# Altium schematic symbol library AltiumLibraries.SchLib: 572 symbols (part 2 of 5)
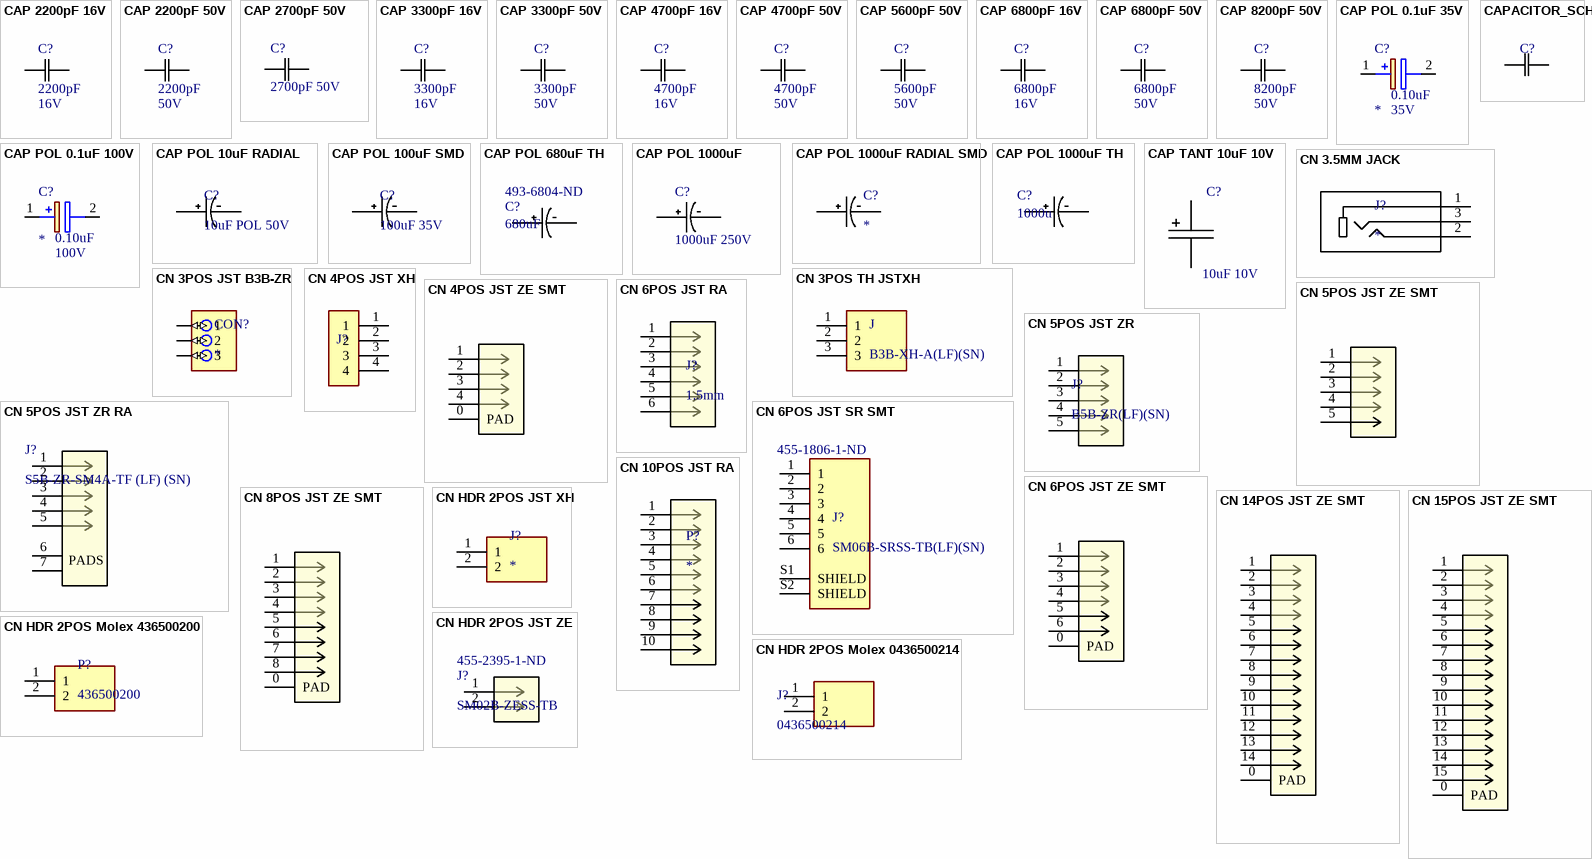
[diagram p16: symbols CAP 2200pF 16V to CN HDR 2POS Molex 0436500214]

## CN 4POS JST XH
designator J?
Connector Header Through Hole 4 position 0.098 _2.50mm_ / B4B-XH-A(LF)(SN); MP: B4B-XH-A_LF__SN_; MF: JST Sales; Price: None; Package: None; Value: *; Availability: Unavailable; SnapEDA_Link: https://www.snapeda.com/parts/B4B-XH-A%28LF%29%28SN%29/JST%20Sales%20America%20Inc./view-part/447494/?ref=snap
footprint JST_B4B-XH-A(LF)(SN)
pins: 1, 2, 3, 4

## CN 4POS JST ZE SMT
designator J?, comment BM04B-ZESS-TBT(LF)(SN)
Connector Header, ZE Series, 4 Positon, 1.5mm, Shrouded - 4 Wall, Solder, Locking Ramp, Natural; Manufacturer: JST; Number of Positions: 4; Current Rating: 2A; Voltage Rating: 100V; Connector Type: Outer Shroud Contact; Pitch: 0.059inch; Supplier 1: Digi-Key; Manufacturer Part Number: BM04B-ZESS-TBT(LF)(SN); RoHS: Yes; Category: Connectors; Stock 1: 2574; Pricing 1: 1=0.74000, 10=0.64700, 100=0.53360 (USD); Mount: Surface Mount; Color: Natural; Contact Material: Copper Alloy; Contact Plating: Tin; Package Quantity: 800; Number of Rows: 1; Packaging: Tape and Reel; Termination: Solder; Fastening Type: Ramp; Number of Contacts: 4; Orientation: Straight; Series: ZE; Contact Type: Outer Shroud Contact; Lead Free: Lead Free; ComponentLink1URL: https://datasheet.ciiva.com/729/bm2-6b-zexxs-tbtlfsn-729254.pdf?src-supplier=Digi-Key; ComponentLink1Description: https://datasheet.ciiva.com/729/bm2-6b-zexxs-tbtlfsn-729254.pdf?src-supplier=Digi-Key; ComponentLink2URL: https://datasheet.ciiva.com/729/bm2-6b-zexxs-tbtlfsn-729284.pdf?src-supplier=Digi-Key; ComponentLink2Description: https://datasheet.ciiva.com/729/bm2-6b-zexxs-tbtlfsn-729284.pdf?src-supplier=Digi-Key; Supplier Part Number 1: 455-2382-1-ND
footprint JST ZE SMT 4POS (4 POS HDR JST ZE)
pins: 0 PAD, 1, 2, 3, 4

## CN 5POS JST ZE SMT
designator J?, comment BM05B-ZESS-TBT(LF)(SN)
CONN HEADER VERT SMD 5POS ZE; Supplier 1: Digi-Key; Supplier Part Number 1: 455-2383-1-ND
footprint JST ZE SMT 5POS (5 POS HDR JST ZE)
pins: 1, 2, 3, 4, 5

## CN 5POS JST ZR
designator J?, comment B5B-ZR(LF)(SN)
Connector Header Through Hole 5 position 0.059 (1.50mm); MF: JST Sales; Package: None; Check_prices: https://www.snapeda.com/parts/B5B-ZR(LF)(SN)/JST%20Sales%20America%20Inc./view-part/214617/?ref=eda; Purchase-URL: https://pricing.snapeda.com/search/part/B5B-ZR(LF)(SN)/?ref=eda; Price: None; MP: B5B-ZR(LF)(SN); Value: *; Availability: Warning; SnapEDA_Link: https://www.snapeda.com/parts/B5B-ZR(LF)(SN)/JST%20Sales%20America%20Inc./view-part/214617/?ref=snap; Supplier 1: Digi-Key; Supplier 2: Future Electronics; Supplier Part Number 1: 455-1660-ND; Supplier Part Number 2: 5800651
footprint JST_B5B-ZR(LF)(SN)
pins: 1, 2, 3, 4, 5

## CN 5POS JST ZR RA
designator J?, comment S5B-ZR-SM4A-TF (LF) (SN)
Connector Header Surface Mount, Right Angle 5 position 0.059" (1.50mm); Mfr_Name: JST; Copyright: Copyright (C) 2021 Ultra Librarian. All rights reserved.; Manufacturer_Part_Number: S5B-ZR-SM4A-TF (LF) (SN); Digi-Key_Part_Number_1: 455-1696-2-ND; Digi-Key_Part_Number_2: 455-1696-1-ND; Digi-Key_Part_Number_3: 455-1696-6-ND; RefDes: RefDes; Type: DEV; Supplier 1: Digi-Key; Supplier Part Number 1: 455-1696-1-ND
footprint JST_S5B-ZR-SM4A-TF
pins: 1, 2, 3, 4, 5, 6, 7
text: PADS

## CN 6POS JST RA
designator J?, comment 1.5mm
Conn Shrouded Header HDR 6 POS 1.5mm Solder RA Thru-Hole Box; Manufacturer: JST; Manufacturer Part Number: S6B-ZR(LF)(SN); Body Plating: Tin; Number of Positions: 6; Current Rating: 1A; Connector Type: Header,Male Pin; Contact Resistance: 30mR; Voltage Rating: 50V; Gender: Male; Insulation Resistance: 500MR; Panel Thickness: 3.5mm; Supplier 1: Digi-Key; RoHS: Yes; Category: Headers and Wire Housings; Stock 1: 14808; Mount: Through Hole; Number of Pins: 6; Color: White; Contact Plating: Tin,Copper; Contact Material: Brass,Tin,Copper; Housing Color: Beige; Housing Material: Polyamide; Material: Nylon; Contact Shape: Circular; Insulation Material: Nylon; Insulation Color: Natural; Min Operating Temperature: -25°C; Max Operating Temperature: 85°C; Number of Rows: 1; Packaging: Bulk; Termination: Solder; Fastening Type: Detent; Number of Contacts: 6; Max Voltage Rating (AC): 50V; Max Current Rating: 1A; Orientation: Right Angle; Voltage Rating (AC): 50V; Voltage Rating (DC): 50V; Length: 10.5mm; Width: 3.5mm; Height: 7.2mm; Pitch: 1.5mm; Depth: 6mm; Lead Pitch: 1.5mm; Contact Mating Length: 0.094inch; Lead Free: Lead Free; Flammability Rating: UL94 V-0; REACH SVHC: No SVHC; ComponentLink1URL: https://datasheet.ciiva.com/8052/80556-8052225.pdf?src-supplier=Element14; ComponentLink1Description: https://datasheet.ciiva.com/8052/80556-8052225.pdf?src-supplier=Element14; ComponentLink2URL: https://datasheet.ciiva.com/25617/0900766b81147f94-25617345.pdf?src-supplier=RSComponents; ComponentLink2Description: https://datasheet.ciiva.com/25617/0900766b81147f94-25617345.pdf?src-supplier=RSComponents; ComponentLink3URL: https://datasheet.ciiva.com/11752/0900766b8082f593-11752194.pdf?src-supplier=RSComponents; ComponentLink3Description: https://datasheet.ciiva.com/11752/0900766b8082f593-11752194.pdf?src-supplier=RSComponents; ComponentLink4URL: https://datasheet.ciiva.com/26894/getdatasheetpartid-642095-26894637.pdf?src-supplier=Verical; ComponentLink4Description: https://datasheet.ciiva.com/26894/getdatasheetpartid-642095-26894637.pdf?src-supplier=Verical; ComponentLink5URL: https://datasheet.ciiva.com/712/ezh-712560.pdf?src-supplier=Digi-Key; ComponentLink5Description: https://datasheet.ciiva.com/712/ezh-712560.pdf?src-supplier=Digi-Key; ComponentLink6URL: https://datasheet.ciiva.com/16484/s6b-zrlfsn-16484554.pdf?src-supplier=Future+Electronics; ComponentLink6Description: https://datasheet.ciiva.com/16484/s6b-zrlfsn-16484554.pdf?src-supplier=Future+Electronics; Supplier Part Number 1: 455-1673-ND
footprint 6POS JST
footprint 6POS JST Vertical
pins: 1, 2, 3, 4, 5, 6

## CN 6POS JST SR SMT
designator J?, comment SM06B-SRSS-TB(LF)(SN)  Supplier Part Number 1: 455-1806-1-ND
Connector Header Surface Mount, Right Angle 6 position 0.039 _1.00mm_; MP: SM06B-SRSS-TB_LF__SN_; MF: JST Sales; Package: None; Value: *; SnapEDA_Link: https://www.snapeda.com/parts/SM06B-SRSS-TB%28LF%29%28SN%29/JST%20Sales%20America%20Inc./view-part/554386/?ref=snap; Digi-Key_Purchase_URL: https://www.digikey.com/product-detail/en/jst-sales-america-inc/SM06B-SRSS-TB_LF__SN_/455-1806-1-ND/926877?utm_source=snapeda&utm_medium=aggregator&utm_campaign=symbol; Digi-Key_Part_Number: 455-1806-1-ND; Supplier 1: Digi-Key
footprint JST_SM06B-SRSS-TB(LF)(SN)
pins: 1, 2, 3, 4, 5, 6, S1 SHIELD, S2 SHIELD

## CN 6POS JST ZE SMT
designator J?, comment BM06B-ZESS-TBT(LF)(SN)
CONN HEADER VERT SMD 6POS ZE; Supplier 1: Digi-Key; Supplier Part Number 1: 455-2384-1-ND
footprint JST ZE SMT 6POS (6 POS HDR JST ZE)
pins: 0 PAD, 1, 2, 3, 4, 5, 6

## CN 8POS JST ZE SMT
designator J?, comment BM08B-ZESS-TBT(LF)(SN)
CONN HEADER VERT SMD 8POS ZE; Supplier 1: Digi-Key; Supplier Part Number 1: 455-2386-1-ND
footprint JST ZE SMT 8POS (8 POS HDR JST ZE)
pins: 0 PAD, 1, 2, 3, 4, 5, 6, 7, 8

## CN 10POS JST RA
designator P?
Connector Header Through Hole, Right Angle 10 position 0.059" (1.50mm) ZH Series
footprint 10POS JST
pins: 1, 2, 3, 4, 5, 6, 7, 8, 9, 10

## CN 14POS JST ZE SMT
designator J?, comment BM14B-ZESS-TBT(LF)(SN)
CONN HEADER VERT SMD 14POS ZE; Supplier 1: Digi-Key; Supplier Part Number 1: 455-4210-1-ND
footprint JST ZE SMT 14POS (14 POS HDR JST ZE)
pins: 0 PAD, 1, 2, 3, 4, 5, 6, 7, 8, 9, 10, 11, 12, 13, 14

## CN 15POS JST ZE SMT
designator J?, comment BM15B-ZESS-TBT(LF)(SN)
CONN HEADER VERT SMD 15POS ZE; Supplier 1: Digi-Key; Supplier Part Number 1: 455-4211-1-ND
footprint JST ZE SMT 15POS (15 POS HDR JST ZE)
pins: 0 PAD, 1, 2, 3, 4, 5, 6, 7, 8, 9, 10, 11, 12, 13, 14, 15

## CN HDR 2POS JST XH
designator J?
Connector Header Through Hole 2 position 0.098 _2.50mm_ / JST XH; MP: B2B-XH-A_LF__SN_; MF: JST Sales; Price: None; Package: None; Value: *; Availability: Unavailable; SnapEDA_Link: https://www.snapeda.com/parts/B2B-XH-A%28LF%29%28SN%29/JST%20Sales%20America%20Inc./view-part/492310/?ref=snap
footprint JST_B2B-XH-A(LF)(SN)
footprint JST_S2B-XH-A(LF)(SN)
pins: 1, 2

## CN HDR 2POS JST ZE
designator J?, comment SM02B-ZESS-TB  Supplier Part Number 1: 455-2395-1-ND
Connector Header Surface Mount, Right Angle 2 position 0.059" (1.50mm); Mfr_Name: JST; Copyright: Copyright (C) 2021 Ultra Librarian. All rights reserved.; Manufacturer_Part_Number: SM02B-ZESS-TB; RefDes: RefDes; Type: DEV; Supplier 1: Digi-Key
footprint CN SM02B-ZESS-TB_JST
pins: 1, 2

## CN HDR 2POS Molex 436500200
designator P?, comment 436500200
Connector Header Through Hole, Right Angle 2 position 0.118 (3.00mm); MF: Molex; MP: 436500200; Availability: Warning; SnapEDA_Link: https://www.snapeda.com/parts/436500200/Molex/view-part/4523841/?ref=snap; Package: None; Value: *; Price: None; Supplier 1: Digi-Key; Supplier Part Number 1: WM1860-ND
footprint MOLEX_436500200
pins: 1, 2

## CN HDR 2POS Molex 0436500214
designator J?, comment 0436500214
Connector Header Surface Mount, Right Angle 2 position 0.118" (3.00mm); Manufacturer_Name: Molex; Manufacturer_Part_Number: 43650-0214; Datasheet Link: http://www.molex.com/webdocs/datasheets/pdf/en-us//0436500214_PCB_HEADERS.pdf; Supplier 1: Digi-Key; Supplier 2: Newark; Supplier 3: Arrow Electronics; Supplier 4: Mouser; Supplier Part Number 1: WM14310CT-ND; Supplier Part Number 2: 39AH6218; Supplier Part Number 3: 43650-0214; Supplier Part Number 4: 538-43650-0214
footprint 43650-0214
pins: 1, 2

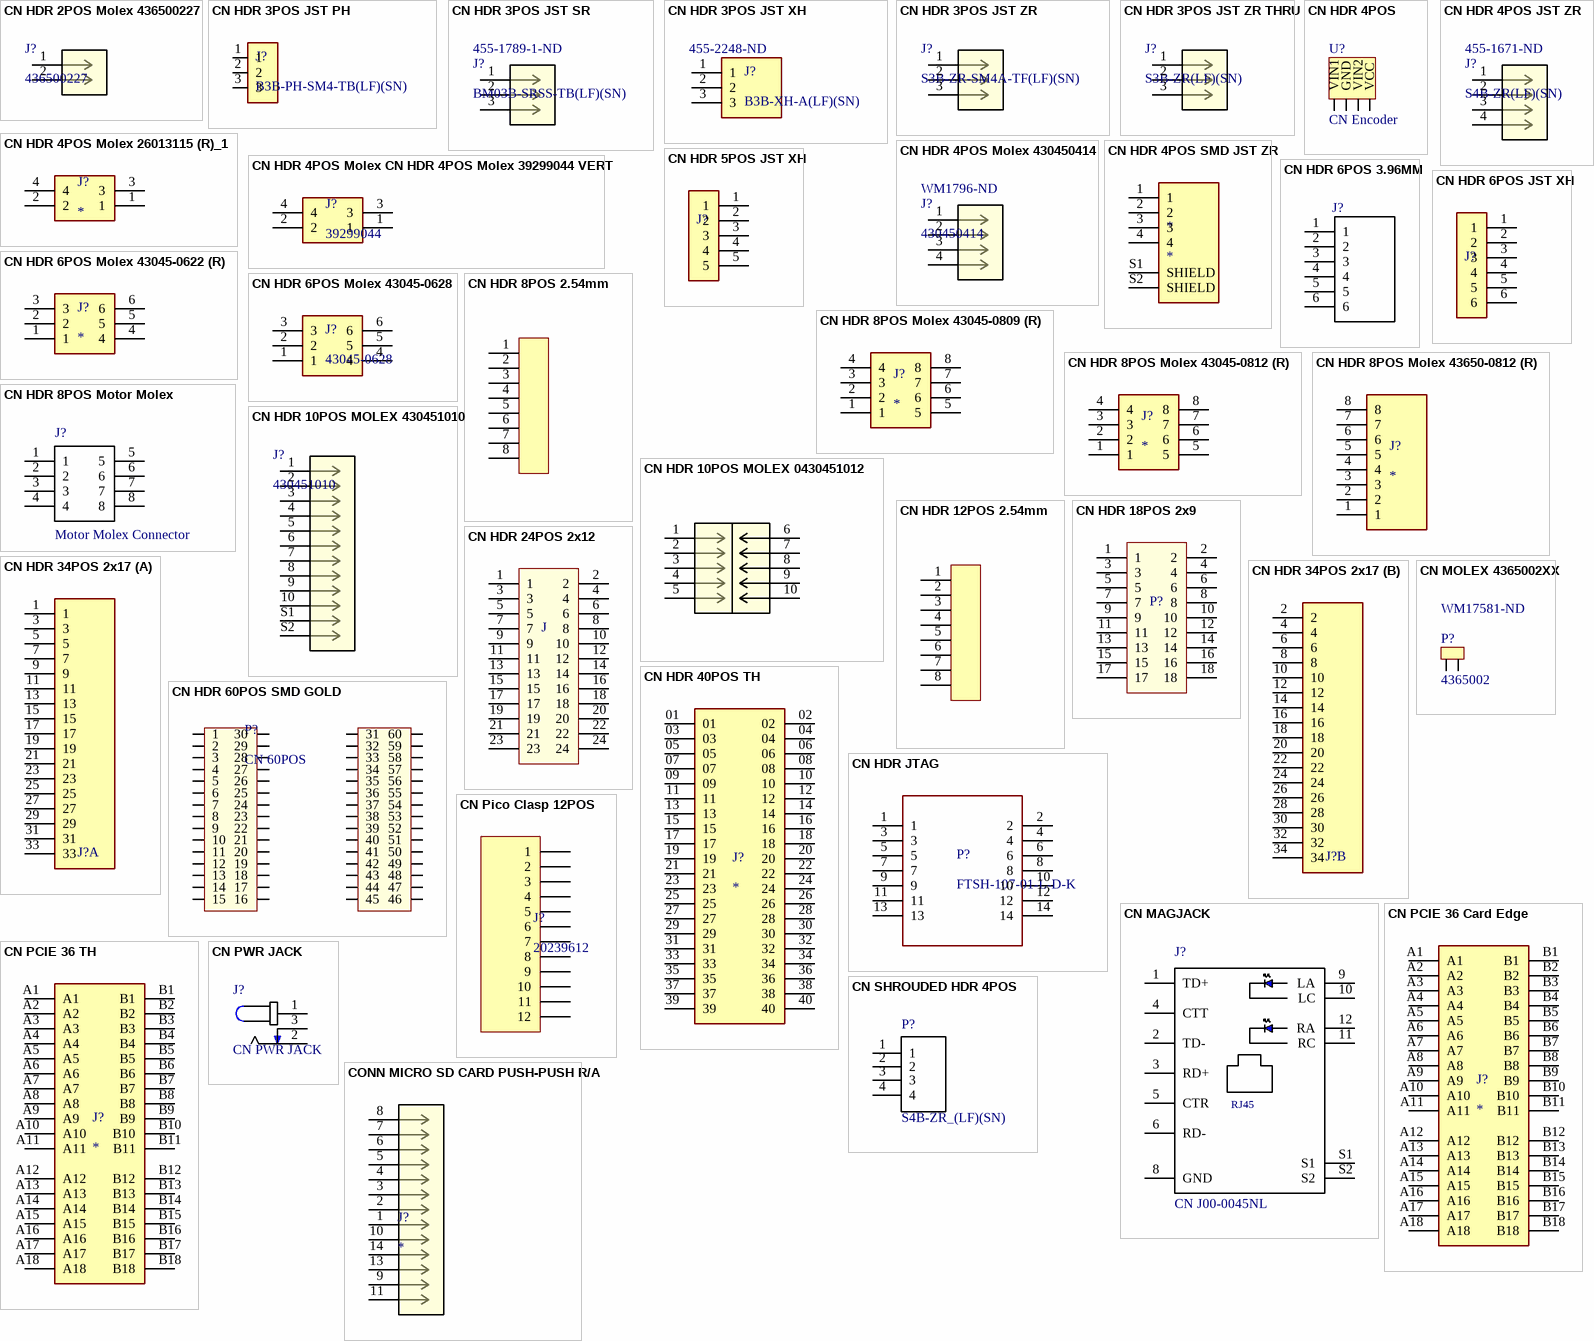
[diagram p4: symbols CN HDR 2POS Molex 436500227 to CONN MICRO SD CARD PUSH-PUSH R/A]

## CN HDR 2POS Molex 436500227
designator J?, comment 436500227
Connector Header Through Hole 2 position 0.118" (3.00mm); Mfr_Name: Molex Connector Corporation; Copyright: Copyright (C) 2021 Ultra Librarian. All rights reserved.; Manufacturer_Part_Number: 436500227; Digi-Key_Part_Number_1: WM10656-ND; RefDes: RefDes; Type: DEV; Supplier 1: Digi-Key; Supplier 2: Newark; Supplier 3: Arrow Electronics; Supplier 4: Mouser; Supplier Part Number 1: WM10656-ND; Supplier Part Number 2: 57H0317; Supplier Part Number 3: 43650-0227; Supplier Part Number 4: 538-43650-0227
footprint CON_436500227_MOL
pins: 1, 2

## CN HDR 3POS JST PH
designator J?, comment B3B-PH-SM4-TB(LF)(SN)
Connector Header Surface Mount 3 position 0.079" (2.00mm); MF: JST Sales; MP: B3B-PH-SM4-TB_LF__SN_; Digi-Key_Part_Number: 455-1735-1-ND; Digi-Key_Purchase_URL: https://www.digikey.com/product-detail/en/jst-sales-america-inc/B3B-PH-SM4-TB_LF__SN_/455-1735-1-ND/926832?utm_source=snapeda&utm_medium=aggregator&utm_campaign=symbol; Value: *; SnapEDA_Link: https://www.snapeda.com/parts/B3B-PH-SM4-TB%28LF%29%28SN%29/JST%20Sales%20America%20Inc./view-part/53135/?ref=snap; Package: 2010 JST; Supplier 1: Digi-Key; Supplier Part Number 1: 455-1735-1-ND
footprint JST_B3B-PH-SM4-TB(LF)(SN)
pins: 1, 2, 3

## CN HDR 3POS JST SR
designator J?, comment BM03B-SRSS-TB(LF)(SN)  Supplier Part Number 1: 455-1789-1-ND
Connector Header Surface Mount 3 position 0.039" (1.00mm); Mfr_Name: JST; Copyright: Copyright (C) 2022 Ultra Librarian. All rights reserved.; Manufacturer_Part_Number: BM03B-SRSS-TB(LF)(SN); Digi-Key_Part_Number_1: 455-1789-2-ND; Digi-Key_Part_Number_2: 455-1789-1-ND; Digi-Key_Part_Number_3: 455-1789-6-ND; RefDes: RefDes; Type: DEV; Supplier 1: Digi-Key
footprint CONN_BM03B-SRSS-TB(LF)(SN)_JST
pins: 1, 2, 3

## CN HDR 3POS JST XH
designator J?, comment B3B-XH-A(LF)(SN)  Supplier Part Number 1: 455-2248-ND
Connector Header Through Hole 3 position 0.098 (2.50mm); MF: JST Sales; Check_prices: https://www.snapeda.com/parts/B3B-XH-A(LF)(SN)/JST%20Sales%20America%20Inc./view-part/231271/?ref=eda; Value: *; Package: None; Price: None; Availability: In Stock; MP: B3B-XH-A(LF)(SN); SnapEDA_Link: https://www.snapeda.com/parts/B3B-XH-A(LF)(SN)/JST%20Sales%20America%20Inc./view-part/231271/?ref=snap; Supplier 1: Digi-Key
footprint JST_B3B-XH-A(LF)(SN)
pins: 1, 2, 3

## CN HDR 3POS JST ZR
designator J?, comment S3B-ZR-SM4A-TF(LF)(SN)
Connector Header Surface Mount, Right Angle 3 position 0.059" (1.50mm); Mfr_Name: JST; Copyright: Copyright (C) 2021 Ultra Librarian. All rights reserved.; Manufacturer_Part_Number: S3B-ZR-SM4A-TF(LF)(SN); RefDes: RefDes; Type: DEV; ComponentLink1Description: Newark Link; ComponentLink1URL: https://canada.newark.com/jst-japan-solderless-terminals/s3b-zr-sm4a-tf/wire-to-board-connector-side-entry/dp/90R9343?CMP=AFC-OP
footprint CN S3B-ZR-SM4A-TF(LF)(SN)_JST
pins: 1, 2, 3

## CN HDR 3POS JST ZR THRU
designator J?, comment S3B-ZR(LF)(SN)
Connector Header Through Hole, Right Angle 3 position 0.059" (1.50mm); Mfr_Name: JST; Copyright: Copyright (C) 2021 Ultra Librarian. All rights reserved.; Manufacturer_Part_Number: S3B-ZR(LF)(SN); Digi-Key_Part_Number_1: 455-1670-ND; RefDes: RefDes; Type: DEV; Supplier 1: Digi-Key; Supplier 2: Newark; Supplier Part Number 1: 455-1670-ND; Supplier Part Number 2: 67Y9690
footprint CONN_S3B-ZR_JST
pins: 1, 2, 3

## CN HDR 4POS
designator U?, comment CN Encoder
CN HDR R/A 4POS 1.5MM; MF: JST Sales America Inc.; MP: S4B-ZR(LF)(SN); Rating: 1A; Digikey: 455-1671-ND; Digikey Link: https://www.digikey.ca/products/en?keywords=455-1671-ND; Price: 0.324 CAD; Package: N/A; Value: N/A; Supplier 1: Digi-Key; Supplier Part Number 1: 455-1671-ND
footprint EncoderConnector (CONN HEADER R/A 4POS 1.5MM)
pins: GND (power), VCC (power), VIN1 (in), VIN2 (in)

## CN HDR 4POS JST ZR
designator J?, comment S4B-ZR(LF)(SN)  Supplier Part Number 1: 455-1671-ND
Connector Header Through Hole, Right Angle 4 position 0.059" (1.50mm); Mfr_Name: JST; Copyright: Copyright (C) 2021 Ultra Librarian. All rights reserved.; Manufacturer_Part_Number: S4B-ZR(LF)(SN); Digi-Key_Part_Number_1: 455-1671-ND; RefDes: RefDes; Type: DEV; Supplier 1: Digi-Key
footprint CN S4B-ZR(LF)(SN)_JST
pins: 1, 2, 3, 4

## CN HDR 4POS Molex 26013115 (R)_1
designator J?
Molex 26013115 4POS Minifit / dual row, right angle
footprint 26013115
pins: 1, 2, 3, 4

## CN HDR 4POS Molex 430450414
designator J?, comment 430450414  Supplier Part Number 1: WM1796-ND
Connector Header Through Hole 4 position 0.118" (3.00mm); Mfr_Name: Molex Connector Corporation; Copyright: Copyright (C) 2021 Ultra Librarian. All rights reserved.; Manufacturer_Part_Number: 430450414; RefDes: RefDes; Type: DEV; Supplier 1: Digi-Key
footprint CN 430450414_MOL
pins: 1, 2, 3, 4

## CN HDR 4POS Molex CN HDR 4POS Molex 39299044 VERT
designator J?, comment 39299044
Molex 39299044 4POS Minifit / dual row, vertical; Supplier 1: Digi-Key; Supplier Part Number 1: WM7336-ND
footprint 39299044 (4 POS MOLEX VERT)
pins: 1, 2, 3, 4

## CN HDR 4POS SMD JST ZR
designator *
footprint CN HDR 4POS SMD JST ZR
pins: 1, 2, 3, 4, S1 SHIELD, S2 SHIELD

## CN HDR 5POS JST XH
designator J?
Connector Header Through Hole 5 position 0.098" (2.50mm); MP: B5B-XH-A(LF)(SN); MF: JST Sales; Price: None; Package: None; Value: *; Availability: Unavailable; Digikey: 455-2270-ND; ComponentLink1Description: Digikey; ComponentLink1URL: https://www.digikey.ca/en/products/detail/jst-sales-america-inc/B5B-XH-A-LF-SN/1530483
footprint JST_B5B-XH-A(LF)(SN)
pins: 1, 2, 3, 4, 5

## CN HDR 6POS 3.96MM
designator J?, comment CONN HEADER VERT 6POS 3.96MM  (value not drawn)
MF: TE Connectivity; MP: 1877285-6; Current Rating: 7.5A; Voltage Rating: 250VAC; SnapEDA_Link: https://www.snapeda.com/parts/1877285-6/TE%20Connectivity/view-part/2371244/?ref=snap; Digikey: A99849-ND; Digikey Link: https://www.digikey.ca/product-detail/en/te-connectivity-amp-connectors/1877285-6/A99849-ND/2000097; Supplier 1: Digi-Key; Supplier Part Number 1: A99849-ND
footprint CN HDR 6POS 3.96MM
pins: 1, 2, 3, 4, 5, 6

## CN HDR 6POS JST XH
designator J?
Connector Header Through Hole 6 position 0.098" (2.50mm); MP: B6B-XH-A(LF)(SN); MF: JST Sales; Price: None; Package: None; Value: *; Availability: Available; Digikey: 455-2271-ND; ComponentLink1Description: Digikey; ComponentLink1URL: https://www.digikey.ca/en/products/detail/jst-sales-america-inc/B5B-XH-A-LF-SN/1530483
footprint JST_B6B-XH-A(LF)(SN)
pins: 1, 2, 3, 4, 5, 6

## CN HDR 6POS Molex 43045-0622 (R)
designator J?
Molex 43045-0622 6POS Microfit / dual row, right angle
footprint 430450622
pins: 1, 2, 3, 4, 5, 6

## CN HDR 6POS Molex 43045-0628
designator J?, comment 43045-0628
Molex 43045-0628 6POS Microfit / dual row, Vertical; Supplier 1: Digi-Key; Supplier Part Number 1: WM10679-ND
footprint 430450628 (6 POS VERT MOLEX)
pins: 1, 2, 3, 4, 5, 6

## CN HDR 8POS 2.54mm
designator P?, comment HDR 1x8
footprint HDR1x8
pins: 1, 2, 3, 4, 5, 6, 7, 8

## CN HDR 8POS Molex 43045-0809 (R)
designator J?
Molex 43045-0809 8POS Microfit / dual row, right angle, surface mount
footprint CN 043045-0809 (Molex Micro-Fit 0430450 SMD 8CKT)
pins: 1, 2, 3, 4, 5, 6, 7, 8

## CN HDR 8POS Molex 43045-0812 (R)
designator J?
Molex 43045-0812 8POS Microfit / DR TH Vertical
footprint 4304508 (CN Vertical 8 Pin TH)
pins: 1, 2, 3, 4, 5, 6, 7, 8

## CN HDR 8POS Molex 43650-0812 (R)
designator J?
Molex 43650-0812 8POS Microfit / single row, right angle, surface mount
footprint CN 43650-0812 (Molex Micro-Fit 043650 SMD 8CKT)
pins: 1, 2, 3, 4, 5, 6, 7, 8

## CN HDR 8POS Motor Molex
designator J?, comment Motor Molex Connector
Connector Header Through Hole 8 position 0.165" (4.20mm); MP: 0039281083; MF: Molex; Digikey: WM3803-ND; Price: 1.624 CAD; Value: N/A; Digikey Link: https://www.digikey.ca/products/en?keywords=WM3803-ND; Supplier 1: Digi-Key; Supplier Part Number 1: WM3803-ND
footprint MOLEX_0039281083
pins: 1, 2, 3, 4, 5, 6, 7, 8

## CN HDR 10POS MOLEX 430451010
designator J?, comment 430451010
Connector Header Surface Mount, Right Angle 10 position 0.118" (3.00mm); Mfr_Name: Molex Connector Corporation; Copyright: Copyright (C) 2021 Ultra Librarian. All rights reserved.; Manufacturer_Part_Number: 430451010; Digi-Key_Part_Number_1: WM3819TR-ND; Digi-Key_Part_Number_2: WM3819CT-ND; Digi-Key_Part_Number_3: WM3819DKR-ND; RefDes: RefDes; Type: DEV; Supplier 1: Digi-Key; Supplier 2: Newark; Supplier 3: Mouser; Supplier Part Number 1: WM3819CT-ND; Supplier Part Number 2: 03AH4054; Supplier Part Number 3: 538-43045-1010
footprint CON_430451010_MOL
pins: 1, 2, 3, 4, 5, 6, 7, 8, 9, 10, S1, S2

## CN HDR 10POS MOLEX 0430451012
designator J?, comment 8A Molex
CONN HEADER VERT 10POS 3MM; Manufacturer Part Number: 0430451012; Number of Terminals/Pins: 10; Contact Resistance: 10mR; Connector Type: Male Pin; Number of Ports: 1; Max Voltage Rating (AC): 250V; Pitch: 0.118inch; Supplier 1: Digi-Key; Manufacturer: Molex; RoHS: Yes; Category: Headers and Wire Housings; Stock 1: 22123; Pricing 1: 1=2.46000, 10=2.09300, 80=1.72925, 1224=1.36521, 6120=1.21049 (USD); Mount: Through Hole; Color: Black; Contact Material: Brass; Contact Plating: Tin; Housing Color: Black; Housing Material: Polymer; Min Operating Temperature: -40°C; Max Operating Temperature: 105°C; Packaging: Tray; Number of Rows: 2; Number of Positions: 10; Termination: Solder; Number of Contacts: 10; Orientation: Straight; Series: Micro-Fit 3.0™ 43045; Fastening Type: Ramp; Contact Type: Male Pin; Length: 19.15mm; Row Spacing: 0.118inch; Depth: 8.77mm; Flammability Rating: UL94 V-0; RoHS Compliant: Yes; ComponentLink1URL: http://components.arrow.com/part/dataview/0323_01052363?src-supplier=Arrow+Europe; ComponentLink1Description: http://components.arrow.com/part/dataview/0323_01052363?src-supplier=Arrow+Europe; ComponentLink2URL: http://components.arrow.com/part/dataview/2943140S3689940N3303?src-supplier=Arrow+Electronics; ComponentLink2Description: http://components.arrow.com/part/dataview/2943140S3689940N3303?src-supplier=Arrow+Electronics; Supplier Part Number 1: WM1793-ND
footprint MOLEX_0430451012
pins: 1, 2, 3, 4, 5, 6, 7, 8, 9, 10

## CN HDR 12POS 2.54mm
designator P?, comment HDR 1x12
footprint HDR1X12
pins: 1, 2, 3, 4, 5, 6, 7, 8

## CN HDR 18POS 2x9
designator P?  (value not drawn)
footprint HDR2x9
pins: 1, 2, 3, 4, 5, 6, 7, 8, 9, 10, 11, 12, 13, 14, 15, 16, 17, 18

## CN HDR 24POS 2x12
designator J  (value not drawn)
Pin Connector 2X12P MOD2 STIFTLEI 24 POS 0.1" 2.54mm
footprint CN Header 24 POS (12x2) (24 position, dual row, standard 0.1" (2.54mm) spacing.)
pins: 1, 2, 3, 4, 5, 6, 7, 8, 9, 10, 11, 12, 13, 14, 15, 16, 17, 18, 19, 20, 21, 22, 23, 24

## CN HDR 34POS 2x17
designator J?, comment 0.1" Header Female 34  (value not drawn)
Female Header THRU 34POS 2ROW 0.1" (2.54mm) pitch
footprint SAMTEC_ESQ-117-12-L-D
footprint SAMTEC-SSM-117-X-DV
part A pins: 1, 3, 5, 7, 9, 11, 13, 15, 17, 19, 21, 23, 25, 27, 29, 31, 33
part B pins: 2, 4, 6, 8, 10, 12, 14, 16, 18, 20, 22, 24, 26, 28, 30, 32, 34

## CN HDR 40POS TH
designator J?
SSQ - Samtec 2.54mm Square Tail Dual Row Socket Strip 8.5mm Profile; MP: SSQ-120-22-G-D; Value: *; Price: None; Package: None; MF: Samtec; Check_prices: https://www.snapeda.com/parts/SSQ-120-22-G-D/Samtec/view-part/3393219/?ref=eda; Availability: In Stock; SnapEDA_Link: https://www.snapeda.com/parts/SSQ-120-22-G-D/Samtec/view-part/3393219/?ref=snap; Purchase-URL: https://pricing.snapeda.com/search/part/SSQ-120-22-G-D/?ref=eda; Digikey: S6104-ND
footprint SAMTEC_SSQ-120-22-G-D
pins: 01, 02, 03, 04, 05, 06, 07, 08, 09, 10, 11, 12, 13, 14, 15, 16, 17, 18, 19, 20, 21, 22, 23, 24, 25, 26, 27, 28, 29, 30, 31, 32, 33, 34, 35, 36, 37, 38, 39, 40

## CN HDR 60POS SMD GOLD
designator P?, comment CN 60POS
60 Position Connector Header, Outer Shroud Contacts Surface Mount Gold; MF: Panasonic Electric Works; MP: AXK6S60647YG; Digikey: 255-2536-1-ND; Digikey Link: https://www.digikey.ca/product-detail/en/panasonic-electric-works/AXK6S60647YG/255-2536-1-ND/1986699; Price: 3.718; Value: N/A; Tolerance: N/A; Rating: N/A; Package: N/A; Supplier 1: Digi-Key; Supplier Part Number 1: 255-2536-1-ND
footprint CN HDR 60POS (60 Position Connector Header, Outer Shroud Contacts Surface Mount Gold)
pins: 1, 2, 3, 4, 5, 6, 7, 8, 9, 10, 11, 12, 13, 14, 15, 16, 17, 18, 19, 20, 21, 22, 23, 24, 25, 26, 27, 28, 29, 30, 31, 32, 33, 34, 35, 36, 37, 38, 39, 40, 41, 42, 43, 44, 45, 46, 47, 48, 49, 50, 51, 52, 53, 54, 55, 56, 57, 58, 59, 60

## CN HDR JTAG
designator P?, comment FTSH-107-01-L-D-K
Connector Header Through Hole 14 position 0.050" (1.27mm); MF: Samtec Inc.; Rating: 3.4A; ComponentLink1Description: Digikey; ComponentLink1URL: https://www.digikey.ca/product-detail/en/samtec-inc/FTSH-107-01-L-D-K/612-FTSH-107-01-L-D-K-ND/6693516; ComponentLink2Description: Datasheet; ComponentLink2URL: https://www.digikey.ca/en/datasheets/samtecinc/samtec-inc-ftsh-1xx-xx-xx-d-xx-xx-mkt; Digikey: 612-FTSH-107-01-L-D-K-ND; Digikey Link: https://www.digikey.ca/product-detail/en/samtec-inc/FTSH-107-01-L-D-K/612-FTSH-107-01-L-D-K-ND/6693516; MP: FTSH-107-01-L-D-K; Price: 5.14000 CAD; Supplier 1: Mouser; Supplier Part Number 1: 200-FTSH10701LDK
footprint CN HDR JTAG (CONN HEADER VERT 14POS 1.27MM)
pins: 1, 2, 3, 4, 5, 6, 7, 8, 9, 10, 11, 12, 13, 14

## CN MAGJACK
designator J?, comment CN J00-0045NL
CN MAGJACK 1PORT 100 BASE-TX; MF: Pulse Electronics; Package: None; Digikey Link: https://www.digikey.com/product-detail/en/pulse-electronics-network/J00-0045NL/553-1619-5-ND/1036860?utm_source=snapeda&utm_medium=aggregator&utm_campaign=symbol; Digikey: 553-1619-5-ND; SnapEDA_Link: https://www.snapeda.com/parts/J00-0045NL/Pulse%20Electronics%20Network/view-part/87956/?ref=snap; MP: J00-0045NL; Value: *; Supplier 1: Mouser; Supplier Part Number 1: 673-J00-0045NL
footprint RJ45 J00-0045NL
pins: 1 TD+, 2 TD-, 3 RD+, 4 CTT, 5 CTR, 6 RD-, 8 GND, 9 LA, 10 LC, 11 RC, 12 RA, S1, S2
text: RJ45

## CN MOLEX 4365002XX
designator P?, comment 4365002  Supplier Part Number 2: WM17581-ND
MOLEX MICROFIT 2CKT RIGHT THRU; MP: 4365002XX; MF: MOLEX; Digikey: WM17581-ND; Digikey Link: https://www.digikey.com/en/products/detail/molex/0436500205/3310532?s=N4IgTCBcDaICwGYBsBWADGsaUgLoF8g; Package: Microfit; Price: 1.44 CAD; Value: N/A; Supplier 1: Digi-Key
footprint 43650-02 (Molex Microfit 2PIN RightAngle Thru)
pins: 1, 2

## CN PCIE 36 Card Edge
designator J?
36 Position Male PCIE Connector
footprint CN PCIE EDGE 36CKT (PCIE X1 36pin card edge)
pins: A1, A2, A3, A4, A5, A6, A7, A8, A9, A10, A11, A12, A13, A14, A15, A16, A17, A18, B1, B2, B3, B4, B5, B6, B7, B8, B9, B10, B11, B12, B13, B14, B15, B16, B17, B18

## CN PCIE 36 TH
designator J?
36 Position Female Connector PCI Expressâ„¢ Gold 0.039 _1.00mm_ Black 10018784-10210TLF; MF: Amphenol ICC; Price: None; SnapEDA_Link: https://www.snapeda.com/parts/10018784-10210TLF/Amphenol%20FCI/view-part/520950/?ref=snap; Availability: Unavailable; MP: 10018784-10210TLF; Package: None; Value: *
footprint CN PCIE 36 TH (AMPHENOL_10018784-10210TLF)
pins: A1, A2, A3, A4, A5, A6, A7, A8, A9, A10, A11, A12, A13, A14, A15, A16, A17, A18, B1, B2, B3, B4, B5, B6, B7, B8, B9, B10, B11, B12, B13, B14, B15, B16, B17, B18

## CN Pico Clasp 12POS
designator J?, comment 20239612
12 POS Right Angle Pico Clasp Surface Mount
footprint CN 20239612 (12 Circuit SMD Right Angle PicoClasp)
footprint CN 20355612 (12 Circuit SMD Right Angle PicoClasp)
pins: 1, 2, 3, 4, 5, 6, 7, 8, 9, 10, 11, 12

## CN PWR JACK
designator J?
1.3 x 4.2 mm, 2.0 A, Horizontal, Through Hole, Dc Power Jack Connector; MP: PJ-007; MF: CUI Devices; Current Rating: 2.0A; Price: None; SnapEDA_Link: https://www.snapeda.com/parts/PJ-007/CUI%20Devices/view-part/260682/?ref=snap; Package: None; Availability: Unavailable; CUI_purchase_URL: https://www.cuidevices.com/product/interconnect/connectors/dc-power-connectors/jacks/pj-007?utm_source=snapeda.com&utm_medium=referral&utm_campaign=snapedaBOM; Value: *; Supplier 1: Digi-Key; Supplier Part Number 1: CP-2519-ND
footprint CUI_PJ-007
pins: 1, 2, 3

## CN SHROUDED HDR 4POS
designator P?, comment S4B-ZR_(LF)(SN)
Conn Shrouded Header HDR 4 POS 1.5mm Solder RA Thru-Hole Box; MP: S4B-ZR _LF__SN_; MF: JST Sales; Package: None; Price: None; Digikey PN: 455-1671-ND; Supplier 1: Digi-Key; Supplier Part Number 1: 455-1671-ND
footprint JST_S4B-ZR(LF)(SN)
pins: 1, 2, 3, 4

## CONN MICRO SD CARD PUSH-PUSH R/A
designator J?
10 (8 + 2) Position Card Connector Secure Digital - microSD™ Surface Mount, Right Angle Gold; MF: Molex; MP: 5027740891; ComponentLink1Description: Digikey; ComponentLink1URL: https://www.digikey.ca/en/products/detail/molex/5027740891/1952536; Digikey: WM24066CT-ND; ComponentLink2Description: Datasheet; ComponentLink2URL: https://www.molex.com/pdm_docs/sd/5027740891_sd.pdf
footprint SD Connector 5027740891
pins: 1, 2, 3, 4, 5, 6, 7, 8, 9, 10, 11, 13, 14

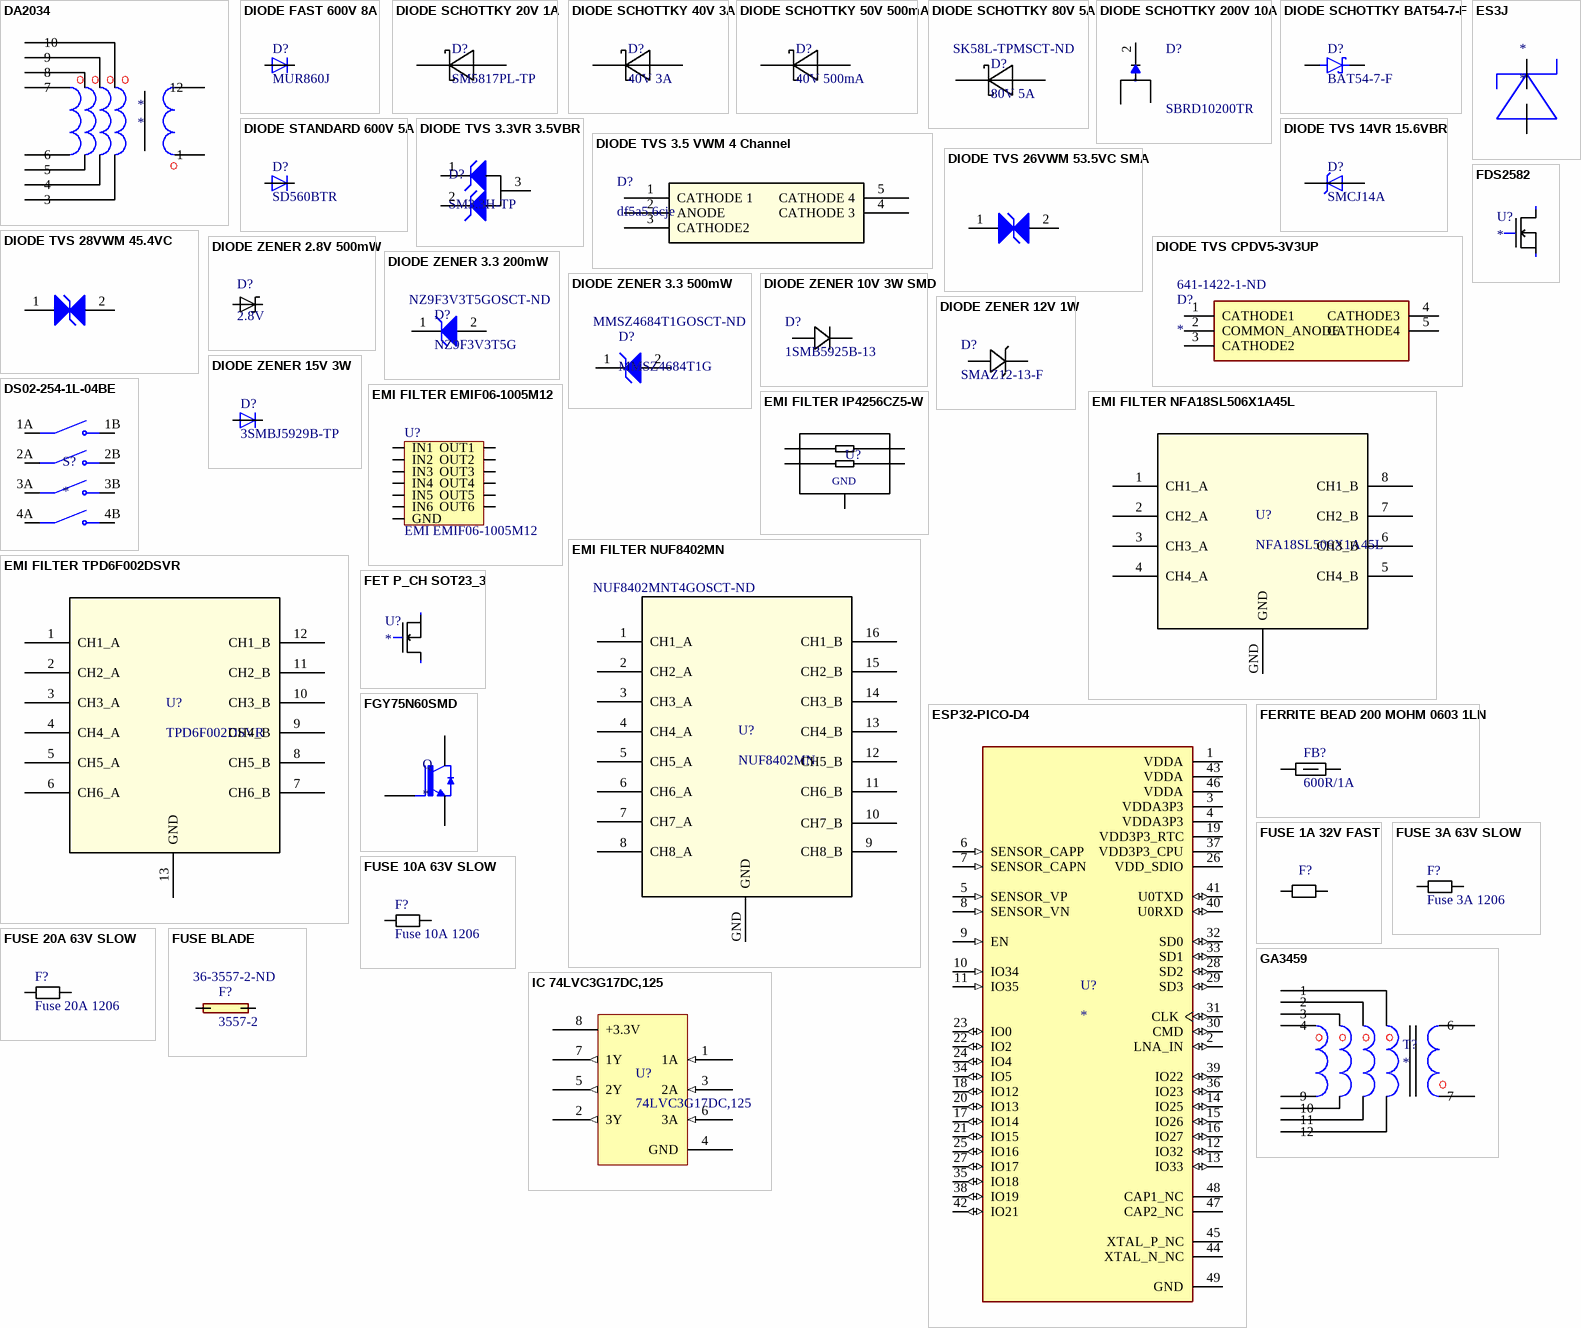
[diagram p5: symbols DA2034 to IC 74LVC3G17DC,125]

## DA2034
designator *
Audio Transformers / Signal Transformers DA2032 Cap Chrgr For Linear LT3750/51; Supplier 1: Mouser; Supplier Part Number 1: 994-DA2034-ALB
footprint DA2034
pins: 1, 3, 4, 5, 6, 7, 8, 9, 10, 12

## DIODE FAST 600V 8A
designator D?, comment MUR860J
Diode Standard 600 V 8A Surface Mount SMC; Supplier 1: Digi-Key; Supplier Part Number 1: 1740-MUR860JCT-ND; ComponentLink1Description: Octopart Link; ComponentLink1URL: https://octopart.com/search?q=MUR860J&currency=USD&specs=0
footprint DO-214AB-DIODES
pins: 1 C, 2 A

## DIODE SCHOTTKY 20V 1A
designator D?, comment SM5817PL-TP
Diode Schottky 20V 1A Surface Mount SOD-123FL; MF: Micro Commercial Co; ComponentLink1Description: digikey; ComponentLink1URL: https://www.digikey.ca/product-detail/en/on-semiconductor/MBR0540T1G/MBR0540T1GOSCT-ND/917967; Digikey: SM5817PL-TPMSCT-ND; Digikey Link: https://www.digikey.ca/product-detail/en/micro-commercial-co/SM5817PL-TP/SM5817PL-TPMSCT-ND/1793410; MP: SM5817PL-TP; Voltage Rating: 20V; Package: SOD-123; Current Rating: 1A
footprint SOD-123
pins: A, C K

## DIODE SCHOTTKY 40V 3A
designator D?, comment 40V 3A
Diode Schottky 40V 3A Surface Mount SMA; Voltage - Forward (Vf) (Max) @ If: 450mV @ 3A; ComponentLink1Description: digikey; ComponentLink1URL: https://www.digikey.ca/product-detail/en/on-semiconductor/MBR0540T1G/MBR0540T1GOSCT-ND/917967; Voltage - DC Reverse (Vr) (Max): 40V; Package: DO-214AC; Current - Average Rectified (Io): 3A
footprint DO-214AC
pins: A, C K

## DIODE SCHOTTKY 50V 500mA
designator D?, comment 40V 500mA
DIODE SCHOTTKY SMD 40V 500mA SOD123; Speed: Fast Recovery =< 500ns, > 200mA (Io); Voltage - Forward (Vf) (Max) @ If: 510mV @ 500mA; ComponentLink1Description: digikey; ComponentLink1URL: https://www.digikey.ca/product-detail/en/on-semiconductor/MBR0540T1G/MBR0540T1GOSCT-ND/917967; Voltage - DC Reverse (Vr) (Max): 40V; Package: SOD-123; Current - Average Rectified (Io): 500mA
footprint SOD-123
pins: A, C

## DIODE SCHOTTKY 80V 5A
designator D?, comment 80V 5A  Supplier Part Number 1: SK58L-TPMSCT-ND
Diode Schottky 80V 5A Surface Mount SMA; Voltage - Forward (Vf) (Max) @ If: 850 mV @ 5 A; Voltage - DC Reverse (Vr) (Max): 80V; Package: DO-214AB; Current - Average Rectified (Io): 5A; Supplier 1: Digi-Key
footprint DIOSC6959X240
pins: A, C K

## DIODE SCHOTTKY 200V 10A
designator D?, comment SBRD10200TR
Diode Schottky 200V 10A Surface Mount DPAK; MF: SMC Diode; MP: SBRD10200TR; SnapEDA_Link: https://www.snapeda.com/parts/SBRD10200TR/SMC%20Diode%20Solutions/view-part/702246/?ref=snap; Package: TO-252-3 SMC; ComponentLink1Description: digikey; ComponentLink1URL: https://www.digikey.ca/product-detail/en/smc-diode-solutions/SBRD10200TR/1655-1939-1-ND/8625508; Digikey: 1655-1939-1-ND; Digikey Link: https://www.digikey.ca/product-detail/en/smc-diode-solutions/SBRD10200TR/1655-1939-1-ND/8625508
footprint DPAK
pins: 1, 2, 3

## DIODE SCHOTTKY BAT54-7-F
designator D?, comment BAT54-7-F
DIODE SCHOTTKY 30V 200MA SOT23-3; Manufacturer: Diodes Incorporated; VDC Reverse: 30 V; Digikey Link: https://www.digikey.ca/en/products/detail/diodes-incorporated/BAT54-7-F/717699; Digikey PN: BAT54-FDICT-ND
footprint BAT54-7-F
pins: 1 A, 3 K

## DIODE STANDARD 600V 5A
designator D?, comment SD560BTR
Diode Standard 600V 5A Surface Mount SMB; Supplier 1: Digi-Key; Supplier Part Number 1: 1655-1530-1-ND
footprint DO-214AA
pins: A, C

## DIODE TVS 3.3VR 3.5VBR
designator D?, comment SM3.3H-TP
3.3V Reverese Standoff, 3.5V Breakdown, 12.5V Clamp 40A (8/20µs) Ipp Tvs Diode SMD SOT-23; ComponentLink1Description: Octopart Link; ComponentLink1URL: https://octopart.com/search?q=SM3.3H-TP&currency=USD&specs=0
footprint SOT-23A-3
pins: 1, 2, 3

## DIODE TVS 3.5 VWM 4 Channel
designator D?, comment df5a5.6cje
- Clamp - Ipp Tvs Diode Surface Mount ESV 4 Channel; Mfr_Name: Toshiba Electronic Devices & Storage Co.; Manufacturer_Part_Number: df5a5.6cje(te85l; Type: DEV; Copyright: Copyright (C) 2021 Ultra Librarian. All rights reserved.; Digi-Key_Part_Number_1: DF5A5.6CJE(TE85LF)TR-ND; Digi-Key_Part_Number_2: DF5A5.6CJE(TE85LF)CT-ND; Digi-Key_Part_Number_3: DF5A5.6CJE(TE85LF)DKR-ND; RefDes: RefDes; Supplier 1: Digi-Key; Supplier Part Number 1: DF5A5.6CJE,LMCT-ND
footprint ESV_TOS
footprint ESV_TOS-L
pins: 1 CATHODE 1, 2 ANODE, 3 CATHODE2, 4 CATHODE 3, 5 CATHODE 4

## DIODE TVS 14VR 15.6VBR
designator D?, comment SMCJ14A
23.2V Clamp 64.7A Ipp Tvs Diode Surface Mount DO-214AB (SMC), VR = 14V, VBR = 15.6V; Package: None; Price: None; Value: *; MP: SMCJ14A; Availability: Unavailable; Supplier 1: Digi-Key; Supplier 2: Mouser; Supplier Part Number 1: SMCJ14ABCT-ND; Supplier Part Number 2: 652-SMCJ14A
footprint DIOM7959X262N
pins: A, C

## DIODE TVS 26VWM 53.5VC SMA
designator D?, comment TVS
TVS DIODE 26V 53.5V SMA; Manufacturer: STMicroelectronics; Manufacturer Part Number: SMAJ26CA-TR; Min Breakdown Voltage: 28.9V; Peak Pulse Power: 400W; Peak Pulse Current: 43A; Test Current: 1mA; Direction: Bidirectional; Number of Bidirectional Channels: 1; Power Line Protection: No; Max Reverse Leakage Current: 200nA; Element Configuration: Single; Diode Type: ZENER; Max Breakdown Voltage: 30.4V; Power Dissipation: 3.3W; Supplier 1: Digi-Key; RoHS: Yes; Category: TVS Diodes; Stock 1: 2361; Pricing 1: 1=0.48000, 10=0.38700, 100=0.26330, 500=0.19748, 1000=0.14810, 2000=0.13576 (USD); Mount: Surface Mount; Case/Package: DO-214AC; Number of Pins: 2; Min Operating Temperature: -55°C; Max Operating Temperature: 150°C; Reverse Standoff Voltage: 26V; Clamping Voltage: 53.5V; Packaging: Tape and Reel; Resistor Type: Zener; Package Quantity: 1; Max Surge Current: 43A; Reverse Breakdown Voltage: 28.9V; Breakdown Voltage: 28.9V; Polarity: Bidirectional; Number of Elements: 1; Leakage Current: 200nA; Series: SMAJ, TRANSIL™; Operating Supply Voltage: 26V; Length: 4.6mm; Width: 2.9mm; Height: 2.45mm; Radiation Hardening: No; RoHS Compliant: Yes; Lead Free: Lead Free; REACH SVHC: No SVHC; ComponentLink1URL: https://datasheet.ciiva.com/337/cd00001333-337790.pdf?src-supplier=Digi-Key; ComponentLink1Description: https://datasheet.ciiva.com/337/cd00001333-337790.pdf?src-supplier=Digi-Key; ComponentLink2URL: https://datasheet.ciiva.com/337/cd00001333-337791.pdf?src-supplier=Digi-Key; ComponentLink2Description: https://datasheet.ciiva.com/337/cd00001333-337791.pdf?src-supplier=Digi-Key; ComponentLink3URL: https://datasheet.ciiva.com/337/cd00001333-337792.pdf?src-supplier=Digi-Key; ComponentLink3Description: https://datasheet.ciiva.com/337/cd00001333-337792.pdf?src-supplier=Digi-Key; ComponentLink4URL: https://datasheet.ciiva.com/17400/cd00001333-17400827.pdf?src-supplier=Avnet+Europe; ComponentLink4Description: https://datasheet.ciiva.com/17400/cd00001333-17400827.pdf?src-supplier=Avnet+Europe; ComponentLink5URL: https://datasheet.ciiva.com/7973/1724007-7973482.pdf?src-supplier=Element14; ComponentLink5Description: https://datasheet.ciiva.com/7973/1724007-7973482.pdf?src-supplier=Element14; Supplier Part Number 1: 497-12523-1-ND
footprint DO-214AC, SMA
pins: 1 K, 2 A

## DIODE TVS 28VWM 45.4VC
designator D?, comment TVS
Diode TVS Single Bi-Directional 28V 5KW 2-Pin SMC T/R; Manufacturer: Eaton Bussmann; Manufacturer Part Number: 5-0SMDJ28CA; Supplier 1: Digi-Key; RoHS: No; Category: TVS Diodes; Stock 1: 2588; Pricing 1: 1=1.71000, 10=1.52500, 100=1.18910, 500=0.98230, 1000=0.77550 (USD); Supplier Part Number 1: 283-5-0SMDJ28CACT-ND
footprint DO-214AB, SMC
pins: 1 K, 2 A

## DIODE TVS CPDV5-3V3UP
designator D?  Supplier Part Number 1: 641-1422-1-ND
TVS Diode Bidirectional Vbr = 3.5V, Working Voltage = 3.3V; Manufacturer_Name: Comchip Technology; Manufacturer_Part_Number: CPDV5-3V3UP; Datasheet Link: http://www.comchiptech.com/admin/files/product/CPDV5-3V3UP-HF%20RevB181493.pdf; Height: 1.1mm; Arrow Part Number: CPDV5-3V3UP; Arrow Price/Stock: https://www.arrow.com/en/products/cpdv5-3v3up/comchip-technology; Mouser Part Number: 750-CPDV5-3V3UP; Mouser Price/Stock: https://www.mouser.com/Search/Refine.aspx?Keyword=750-CPDV5-3V3UP; Supplier 1: Digi-Key
footprint SOT65P230X110-5N
pins: 1 CATHODE1, 2 COMMON_ANODE, 3 CATHODE2, 4 CATHODE3, 5 CATHODE4

## DIODE ZENER 2.8V 500mW
designator D?, comment 2.8V
Zener Diode 2.8V 500mW ±5% Surface Mount SOD-123; Manufacturer: MMSZ5245B-TP; Impedance (Max) (Zzt): 30 Ohms; Current - Reverse Leakage @ Vr: 75µA @ 1V; Voltage - Forward (Vf) (Max) @ If: 900mV @ 10mA; ComponentLink1Description: digikey; ComponentLink1URL: https://www.digikey.ca/en/products/detail/micro-commercial-co/MMSZ5245B-TP/1793206; Power - Max: 500mW; Voltage - Zener (Nom) (Vz): 2.8V; DigiKey: MMSZ5245B-TPMSCT-ND
footprint SOD-123
pins: A, C

## DIODE ZENER 3.3 200mW
designator D?, comment NZ9F3V3T5G  Supplier Part Number 1: NZ9F3V3T5GOSCT-ND
Zener Diode 3.3 V 200 mW ±5% Surface Mount SOD-923; Mfr_Name: ON Semiconductor; Type: DEV; Copyright: Copyright (C) 2021 Ultra Librarian. All rights reserved.; Manufacturer_Part_Number: NZ9F3V3T5G; Digi-Key_Part_Number_1: NZ9F3V3T5GOSTR-ND; Digi-Key_Part_Number_2: NZ9F3V3T5GOSCT-ND; Digi-Key_Part_Number_3: NZ9F3V3T5GOSDKR-ND; RefDes: RefDes; Supplier 1: Digi-Key
footprint SOD-923_0P6X0P85_ONS
pins: 1 K, 2 A

## DIODE ZENER 3.3 500mW
designator D?, comment MMSZ4684T1G  Supplier Part Number 1: MMSZ4684T1GOSCT-ND
Zener 3V3 Voltage Regulator, 500 mW, 2-Pin SOD-123, Pb-Free, Tape and Reel; Manufacturer: On Semiconductor; P Max (W): 0.5; VZ Typ (V): 3.3; ComponentLink2URL: http://www.onsemi.com/pub_link/Collateral/MMSZ4678T1-D.PDF; ComponentLink1URL: http://www.onsemi.com/; PartNumber: MMSZ4684T1G; ComponentLink2Description: Datasheet; ComponentLink3URL: http://www.onsemi.com/pub_link/Collateral/425-04.PDF; DatasheetVersion: Rev. 9; ComponentLink1Description: Manufacturer URL; RoHS: Pb-Free; ComponentLink3Description: Package Specification; PackageReference: SOD-123-2-425-04; PackageVersion: Rev. G, 10/2009; Mounting Technology: Surface Mount; Packing: Tape and Reel; PackageDescription: 2-Pin SOD, Body 1.6 x 2.69 mm; Supplier 1: Digi-Key
footprint ONSC-SOD-123-2-425-04_V (SOD, 2-Leads, Body 2.69x1.6mm)
pins: 1 K, 2 A

## DIODE ZENER 10V 3W SMD
designator D?, comment 1SMB5925B-13
Zener Diode 10 V 3 W ±5% Surface Mount SMB; Mfr_Name: Diodes Inc; Type: DEV; Copyright: Copyright (C) 2021 Ultra Librarian. All rights reserved.; Manufacturer_Part_Number: 1SMB5925B-13; Digi-Key_Part_Number_1: 1SMB5925B13DICT-ND; Digi-Key_Part_Number_2: 1SMB5925B13DITR-ND; RefDes: RefDes; Supplier 1: Digi-Key; Supplier Part Number 1: 1SMB5925B13DICT-ND
footprint SMB_DIO
pins: 1, 2

## DIODE ZENER 12V 1W
designator D?, comment SMAZ12-13-F
Zener Diode 12 V 1 W ±5% Surface Mount SMA; Mfr_Name: Diodes Inc; Type: DEV; Copyright: Copyright (C) 2021 Ultra Librarian. All rights reserved.; Manufacturer_Part_Number: SMAZ12-13-F; Digi-Key_Part_Number_1: SMAZ12-FDICT-ND; Digi-Key_Part_Number_2: SMAZ12-FDIDKR-ND; Digi-Key_Part_Number_3: SMAZ12-FDITR-ND; RefDes: RefDes; Supplier 1: Mouser; Supplier 2: Newark; Supplier 3: Digi-Key; Supplier Part Number 1: 621-SMAZ12-F; Supplier Part Number 2: 23T8541; Supplier Part Number 3: SMAZ12-FDICT-ND
footprint SMA_DIO-L
pins: 1, 2

## DIODE ZENER 15V 3W
designator D?, comment 3SMBJ5929B-TP
Diode ZENER 15V 3W; Supplier 1: Digi-Key; Supplier Part Number 1: 3SMBJ5929BTPMSCT-ND
footprint DO-214AA
footprint SOD-123
pins: A, C

## DS02-254-1L-04BE
designator S?
Dip Switch Piano Key 4-position; MP: DS02-254-1L-04BE; Package: None; Price: None; Value: *; Availability: Unavailable
footprint SW_DS02-254-1L-04BE
pins: 1A COM1, 1B NO1, 2A COM2, 2B NO2, 3A COM3, 3B NO3, 4A COM4, 4B NO4

## EMI FILTER EMIF06-1005M12
designator U?, comment EMI EMIF06-1005M12
FILTER RC(PI) 100 OHM/45PF SMD; MF: STMicroelectronics; Price: 0.49 CAD; Digikey: 497-7740-1-ND; MP: EMIF06-1005M12; Digikey Link: https://www.digikey.ca/product-detail/en/stmicroelectronics/EMIF06-1005M12/497-7740-1-ND/1883755; Package: 12-UFDFN; Supplier 1: Digi-Key; Supplier Part Number 1: 497-7740-1-ND
footprint Filter (EMIFilter)
pins: 1 IN1, 2 IN2, 3 IN3, 4 IN4, 5 IN5, 6 IN6, 7 OUT1, 8 OUT2, 9 OUT3, 10 OUT4, 11 OUT5, 12 OUT6, GND

## EMI FILTER IP4256CZ5-W
designator U?, comment EMI  (value not drawn)
FILTER RC(PI) 100 OHM/19PF SMD; MF: Nexperia USA Inc.; MP: IP4256CZ5-W,115; SnapEDA_Link: https://www.snapeda.com/parts/IP4256CZ5-W/Nexperia%20USA%20Inc./view-part/3605439/?ref=snap; Price: 0.17 CAD; Package: SOT-665; Digikey: 1727-4718-1-ND; Digikey Link: https://www.digikey.ca/product-detail/en/nexperia-usa-inc/IP4256CZ5-W115/1727-4718-1-ND/2531158; Supplier 1: Digi-Key; Supplier Part Number 1: 1727-4718-1-ND
footprint SOT-665
pins: 1 P$1, 2 P$2, 3 P$3, 4 P$4, 5 P$5
text: GND

## EMI FILTER NFA18SL506X1A45L
designator U?, comment NFA18SL506X1A45L
4-Channel EMI Filter 55Mhz LC 2nd Order; Manufacturer: MURATA; GENERIC_PART_NUMBER: TPD6F002; Manufacturer_Part_Number: TPD6F002DSVR; INDUSTRY_STD_PKG_TYPE: 0603 Array; FAMILY_NAME: EMI Solution; PIN_COUNT: 10; Vendor: Texas Instruments; Copyright: Copyright (C) 2018 Accelerated Designs. All rights reserved; RefDes: RefDes; Type: DEV; Supplier 1: Digi-Key
footprint CAF-40P155X80-8N (Chip Array, Flat, 8-Leads, Pitch 0.40mm,  Body 1.55x0.80mm,  IPC Medium Density)
pins: 1 CH1_A, 2 CH2_A, 3 CH3_A, 4 CH4_A, 5 CH4_B, 6 CH3_B, 7 CH2_B, 8 CH1_B, GND

## EMI FILTER NUF8402MN
designator U?, comment NUF8402MN  Supplier Part Number 1: NUF8402MNT4GOSCT-ND
EMI Filter 8ch 105Mhz 100Ohm; Supplier 1: Digi-Key
footprint SON50P160X100_HS-17M (SON, 16-Leads, Body 4.00x1.60mm, Pitch 0.50mm, Thermal Pad 4.10x0.50mm, IPC Low Density)
pins: 1 CH1_A, 2 CH2_A, 3 CH3_A, 4 CH4_A, 5 CH5_A, 6 CH6_A, 7 CH7_A, 8 CH8_A, 9 CH8_B, 10 CH7_B, 11 CH6_B, 12 CH5_B, 13 CH4_B, 14 CH3_B, 15 CH2_B, 16 CH1_B, GND

## EMI FILTER TPD6F002DSVR
designator U?, comment TPD6F002DSVR
6-Channel EMI Filter for Display Interface; Manufacturer: Texas Instruments; INDUSTRY_STD_PKG_TYPE: SON; FAMILY_NAME: EMI Solution; PIN_COUNT: 12; PACKAGE_DESIGNATOR: DSV; Datasheet_URL: http://www.ti.com/lit/gpn/TPD6F002; GENERIC_PART_NUMBER: TPD6F002; Vendor: Texas Instruments; Manufacturer_Part_Number: TPD6F002DSVR; Copyright: Copyright (C) 2018 Accelerated Designs. All rights reserved; RefDes: RefDes; Type: DEV
footprint PSON50P140X80_HS-13N (PSON, 12-Leads, Body 3.00x1.35mm, Pitch 0.50mm, Thermal Pad 3.05x0.31mm, IPC Medium Density)
pins: 1 CH1_A, 2 CH2_A, 3 CH3_A, 4 CH4_A, 5 CH5_A, 6 CH6_A, 7 CH6_B, 8 CH5_B, 9 CH4_B, 10 CH3_B, 11 CH2_B, 12 CH1_B, 13 GND

## ES3J
designator *
Diode Switching 600V 3A 2-Pin DO-214AB T/R; Manufacturer: ON Semiconductor / Fairchild; Manufacturer Part Number: ES3J; Element Configuration: Single; Power Dissipation: 1.66W; Reverse Recovery Time: 35ns; Peak Non-Repetitive Surge Current: 100A; Polarity: Standard; Capacitance: 45pF; Forward Voltage: 1.7V; Peak Reverse Current: 10uA; Supplier 1: Digi-Key; RoHS: Yes; Category: Zener Diodes; Stock 1: 20740; Pricing 1: 1=0.47000, 10=0.37800, 25=0.34600, 100=0.21740, 250=0.21492, 500=0.20126, 1000=0.13685 (USD); Mount: Surface Mount; Case/Package: SMC; Number of Pins: 2; Contact Plating: Tin,Matte; Min Operating Temperature: -50°C; Max Operating Temperature: 150°C; Reverse Voltage: 600V; Max Reverse Voltage (DC): 600V; Average Rectified Current: 3A; Max Repetitive Reverse Voltage (Vrrm): 600V; Max Forward Surge Current (Ifsm): 100A; Current: 3A; Voltage: 600V; Voltage Rating (DC): 600V; Current Rating: 3A; Output Current: 3A; Max Surge Current: 100A; Packaging: Tape and Reel; Package Quantity: 3000; Recovery Time: 35ns; Forward Current: 3A; Length: 7.11mm; Height: 2.616mm; Width: 6.223mm; Radiation Hardening: No; REACH SVHC: No SVHC; Lead Free: Lead Free; ComponentLink1URL: https://datasheet.ciiva.com/4452/es3j-187547-4452440.pdf?src-supplier=Mouser; ComponentLink1Description: https://datasheet.ciiva.com/4452/es3j-187547-4452440.pdf?src-supplier=Mouser; ComponentLink2URL: https://datasheet.ciiva.com/30479/0900766b810e1d0b-30479500.pdf?src-supplier=RSComponents; ComponentLink2Description: https://datasheet.ciiva.com/30479/0900766b810e1d0b-30479500.pdf?src-supplier=RSComponents; ComponentLink3URL: https://datasheet.ciiva.com/22651/1856389-22651960.pdf?src-supplier=Element14; ComponentLink3Description: https://datasheet.ciiva.com/22651/1856389-22651960.pdf?src-supplier=Element14; ComponentLink4URL: https://datasheet.ciiva.com/26230/es3j-26230952.pdf?src-supplier=Avnet+Europe; ComponentLink4Description: https://datasheet.ciiva.com/26230/es3j-26230952.pdf?src-supplier=Avnet+Europe; ComponentLink5URL: https://datasheet.ciiva.com/911/es3a-911003.pdf?src-supplier=Digi-Key; ComponentLink5Description: https://datasheet.ciiva.com/911/es3a-911003.pdf?src-supplier=Digi-Key; ComponentLink6URL: https://datasheet.ciiva.com/911/es3a-911004.pdf?src-supplier=Digi-Key; ComponentLink6Description: https://datasheet.ciiva.com/911/es3a-911004.pdf?src-supplier=Digi-Key; ComponentLink7URL: https://datasheet.ciiva.com/23683/1856389-23683564.pdf?src-supplier=Newark; ComponentLink7Description: https://datasheet.ciiva.com/23683/1856389-23683564.pdf?src-supplier=Newark; ComponentLink8URL: https://datasheet.ciiva.com/17194/es3j-17194703.pdf?src-supplier=Future+Electronics; ComponentLink8Description: https://datasheet.ciiva.com/17194/es3j-17194703.pdf?src-supplier=Future+Electronics; ComponentLink9URL: https://datasheet.ciiva.com/7965/1856389-7965165.pdf?src-supplier=Element14; ComponentLink9Description: https://datasheet.ciiva.com/7965/1856389-7965165.pdf?src-supplier=Element14; ComponentLink10URL: https://datasheet.ciiva.com/8300/es3j-8300861.pdf?src-supplier=Avnet; ComponentLink10Description: https://datasheet.ciiva.com/8300/es3j-8300861.pdf?src-supplier=Avnet; Supplier Part Number 1: ES3JCT-ND
footprint DO-214AB
pins: IN, OUT

## ESP32-PICO-D4
designator U?
Bluetooth, WiFi 802.11b/g/n, Bluetooth v4.2 +EDR, Class 1, 2 and 3 Transceiver Module 2.4GHz ~ 2.5GHz Surface Mount; MP: ESP32-PICO-D4; MF: Espressif Systems; Package: SMD-48 Espressif Systems; Availability: Warning; Price: None; Purchase-URL: https://pricing.snapeda.com/search/part/ESP32-PICO-D4/?ref=eda; Check_prices: https://www.snapeda.com/parts/ESP32-PICO-D4/Espressif%20Systems/view-part/2762121/?ref=eda; SnapEDA_Link: https://www.snapeda.com/parts/ESP32-PICO-D4/Espressif%20Systems/view-part/2762121/?ref=snap; Value: *
footprint PQFN50P700X700X104-49N - BigPads
pins: 1 VDDA (power), 2 LNA_IN (io), 3 VDDA3P3 (power), 4 VDDA3P3 (power), 5 SENSOR_VP (in), 6 SENSOR_CAPP (in), 7 SENSOR_CAPN (in), 8 SENSOR_VN (in), 9 EN (in), 10 IO34 (in), 11 IO35 (in), 12 IO32 (io), 13 IO33 (io), 14 IO25 (io), 15 IO26 (io), 16 IO27 (io), 17 IO14 (io), 18 IO12 (io), 19 VDD3P3_RTC (power), 20 IO13 (io), 21 IO15 (io), 22 IO2 (io), 23 IO0 (io), 24 IO4 (io), 25 IO16 (io), 26 VDD_SDIO (power), 27 IO17 (io), 28 SD2 (io), 29 SD3 (io), 30 CMD (io), 31 CLK (io), 32 SD0 (io), 33 SD1 (io), 34 IO5 (io), 35 IO18 (io), 36 IO23 (io), 37 VDD3P3_CPU (power), 38 IO19 (io), 39 IO22 (io), 40 U0RXD (io), 41 U0TXD (io), 42 IO21 (io), 43 VDDA (power), 44 XTAL_N_NC, 45 XTAL_P_NC, 46 VDDA (power), 47 CAP2_NC, 48 CAP1_NC, 49 GND (power)

## FDS2582
designator U?
N-Channel 150V 4.1A (Ta) 2.5W (Ta) Surface Mount 8-SOIC; MF: ON Semiconductor; MP: FDS2582; Digikey: FDS2582CT-ND; Price: 0.98 CAD; Rating: 150V; Digikey Link: https://www.digikey.com/product-detail/en/on-semiconductor/FDS2582/FDS2582CT-ND/3025307; Package: 8-SOIC; Supplier 1: Digi-Key; Supplier Part Number 1: FDS2582CT-ND
footprint 8-SOIC MOSFET
pins: D, G, S

## FERRITE BEAD 200 MOHM 0603 1LN
designator FB?, comment 600R/1A
WURTH ELEKTRONIK - 742792651 - Ferrite Bead, 0603 [1608 Metric], 600 ohm, 1 A, WE-CBF Series, 0.2 ohm, &#177; 25%; Manufacturer: Wurth Electronics; Current Rating: 1A; Impedance: 600R; Number of Lines: 1; DC Resistance (DCR): 200mR; Test Frequency: 100MHz; Inductance: 0.36H; Supplier 1: Digi-Key; Manufacturer Part Number: 742792651; RoHS: Yes; Category: Ferrite Beads and Chips; Stock 1: 492945; Pricing 1: 1=0.17000, 50=0.16800, 100=0.15500, 500=0.14800, 1000=0.14100, 2000=0.13400 (USD); Mount: Surface Mount; Case/Package: SMD/SMT; Case Code (Metric): 1608; Case Code (Imperial): 0603; Material: Ferrite; Core Material: Ferrite; Weight: 0.000141oz; Min Operating Temperature: -55°C; Max Operating Temperature: 125°C; Tolerance: 25%; Package Quantity: 1; Packaging: Tape and Reel; Max Current Rating: 1A; Max DC Current: 1A; Termination: SMD/SMT; Series: WE-CBF; Resistance: 200mR; Length: 1.6mm; Width: 0.8mm; Height: 0.8mm; Depth: 0.8mm; REACH SVHC: Unknown; RoHS Compliant: Yes; Lead Free: Lead Free; ComponentLink1URL: https://datasheet.ciiva.com/1013/742792651-1013527.pdf?src-supplier=Digi-Key; ComponentLink1Description: https://datasheet.ciiva.com/1013/742792651-1013527.pdf?src-supplier=Digi-Key; ComponentLink2URL: https://datasheet.ciiva.com/1475/1705833-1475349.pdf?src-supplier=Farnell; ComponentLink2Description: https://datasheet.ciiva.com/1475/1705833-1475349.pdf?src-supplier=Farnell; ComponentLink3URL: https://datasheet.ciiva.com/4940/742792651-72243-4940492.pdf?src-supplier=Mouser; ComponentLink3Description: https://datasheet.ciiva.com/4940/742792651-72243-4940492.pdf?src-supplier=Mouser; ComponentLink4URL: https://datasheet.ciiva.com/11803/0900766b80d2e079-11803680.pdf?src-supplier=RSComponents; ComponentLink4Description: https://datasheet.ciiva.com/11803/0900766b80d2e079-11803680.pdf?src-supplier=RSComponents; ComponentLink5URL: https://datasheet.ciiva.com/1013/742792651-1013528.pdf?src-supplier=Digi-Key; ComponentLink5Description: https://datasheet.ciiva.com/1013/742792651-1013528.pdf?src-supplier=Digi-Key; ComponentLink6URL: https://datasheet.ciiva.com/1013/742792651-1013529.pdf?src-supplier=Digi-Key; ComponentLink6Description: https://datasheet.ciiva.com/1013/742792651-1013529.pdf?src-supplier=Digi-Key; ComponentLink7URL: https://datasheet.ciiva.com/22711/1705833-22711420.pdf?src-supplier=Element14; ComponentLink7Description: https://datasheet.ciiva.com/22711/1705833-22711420.pdf?src-supplier=Element14; Supplier Part Number 1: 732-1593-1-ND
footprint 0603 (Chip Resistor, 2-Leads, Body 1.60x0.80mm, IPC High Density)
pins: 1, 2

## FET P_CH SOT23_3
designator U?
P-Channel MOSFET General Purpose P-CH SOT23-3; Parameter 1: C10487
footprint SOT-23 (3)
pins: D, G, S

## FGY75N60SMD
designator Q
IGBT Field Stop 600V 150A 750W Through Hole PowerTO-247-3; MF: ON Semiconductor; MP: FGY75N60SMD; Vge max: ±20V; Topology: Field Stop IGBT; Vce max: 600V; Package: TO-247 Fairchild Semiconductor; Ic max: 150A; Power: 750W; Supplier 1: Digi-Key; Supplier Part Number 1: FGY75N60SMDFS-ND
footprint TO-247-3
footprint TO-247-3 - FaceDown
pins: 1 G, 2 C, 3 E

## FUSE 1A 32V FAST
designator F?
FUSE 1A 32V DC 0603; Response Time: Fast Blow; Current Rating: 1A; ComponentLink1Description: digikey; ComponentLink1URL: https://www.digikey.ca/en/products/detail/kemet/C0603C100K5RAC7867/8572397; Voltage Rating - DC: 32V; Operating Temperature: -55°C ~ 90°C
footprint 0603
pins: 1, 2

## FUSE 3A 63V SLOW
designator F?, comment Fuse 3A 1206
FUSE 3A 63V AC/DC SLOW 1206; Response Time: Slow Blow; Current Rating (Amps): 3A; Operating Temperature: -55°C ~ 90°C; Voltage Rating - AC: 63V; Voltage Rating - DC: 63V
footprint 1206
pins: 1, 2

## FUSE 10A 63V SLOW
designator F?, comment Fuse 10A 1206
FUSE 10A 32V AC 63V DC 1206; Response Time: Slow Blow; Rating: 10A; Voltage Rating - DC: 63V; Voltage Rating - AC: 32V; Operating Temperature: -55°C ~ 90°C
footprint 1206
pins: 1, 2